# Altium footprint library AudioConnectors.PcbLib: 1 footprints
Each footprint in its own frame and in the unit in brackets; x right, y up, seen from the top. Pads: shape width x height; smd on the part's side, far side on the other; paste and mask are expansions set on the pad; w line width, h text height; cw(c..) or ccw(c..) is an arc to the next point about the centre after c.
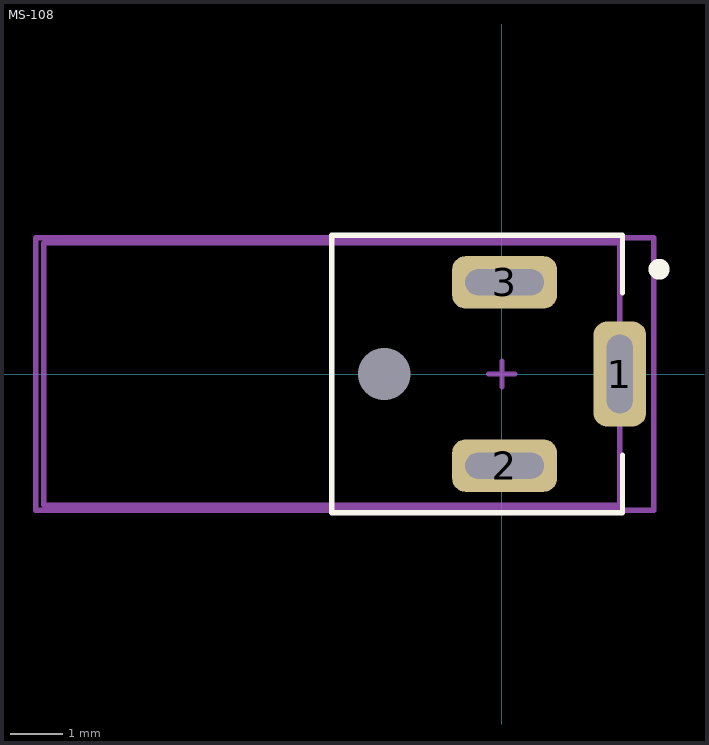
[diagram p0: the footprint, top view; thin cyan lines are the x and y axes]

## MS-108 [mm] "2.5mm audio jack"
pads (4):
  round 0 hole 1: 0(-2.25,0)
  rrect50% 1x2 hole 0.5 slot 1.5 at 90 deg: 1(2.25,0)
  rrect50% 2x1 hole 0.5 slot 1.5 at 0 deg: 2(0.05,-1.75) 3(0.05,1.75)
Top Overlay:
  circle w0.3: c3,2 r0.05
  lines w0.1: 2.3,-1.55 2.3,-2.65 -3.25,-2.65 -3.25,2.65 2.3,2.65 2.3,1.55
Mechanical 13:
  lines w0.1: -8.75,-2.5 2.25,-2.5 2.25,2.5 -8.75,2.5 -8.75,-2.5
Mechanical 15:
  lines w0.1: -0.25,0 0.25,0 ; 0,-0.25 0,0.25 ; -8.9,-2.6 -8.9,2.6 2.9,2.6 2.9,-2.6 -8.9,-2.6
3D body "MJ1-2503A.stp": height 5.5, standoff -2, extent -8.85,-2.5 2.25,2.5